# Altium footprint library E2842.PcbLib: 1 footprints
Each footprint in its own frame and in the unit in brackets; x right, y up, seen from the top. Pads: shape width x height; smd on the part's side, far side on the other; paste and mask are expansions set on the pad; w line width, h text height; cw(c..) or ccw(c..) is an arc to the next point about the centre after c.
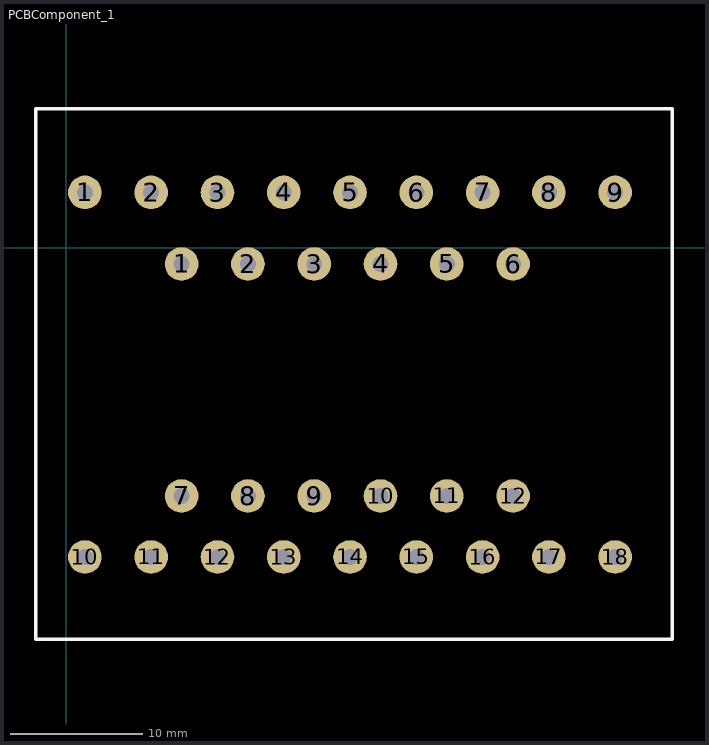
[diagram p0: the footprint, top view; thin cyan lines are the x and y axes]

## PCBComponent_1 [mil]
pads (30):
  round 100 hole 47.25: 1(55,165) 1(342.4,-47.6) 2(251.85,165) 2(539.25,-47.6) 3(448.7,165) 3(736.1,-47.6) 4(645.55,165) 4(932.95,-47.6) 5(842.4,165) 5(1129.8,-47.6) 6(1039.25,165) 6(1326.65,-47.6) 7(342.4,-736.57) 7(1236.1,165) 8(539.25,-736.57) 8(1432.95,165) 9(736.1,-736.57) 9(1629.8,165) 10(55,-917.68) 10(932.95,-736.57) 11(251.85,-917.68) 11(1129.8,-736.57) 12(448.7,-917.68) 12(1326.65,-736.57) 13(645.55,-917.68) 14(842.4,-917.68) 15(1039.25,-917.68) 16(1236.1,-917.68) 17(1432.95,-917.68) 18(1629.8,-917.68)
Top Overlay:
  lines w10: -90.67,-1161.77 1799.09,-1161.77 1799.09,413.03 -90.67,413.03 -90.67,-1161.77
3D body: height 842.52, standoff -161.42, extent 268.46,-861.97 1410.2,82.91